# EAGLE library part WH1602L (library WH1602L)
(16 characters x 2 lines, transflective, positive FSTN, white background, black characters) Source: Datasheet <https://datasheet.datasheetarchive.com/originals/distributors/Datasheets-314/304334.pdf>
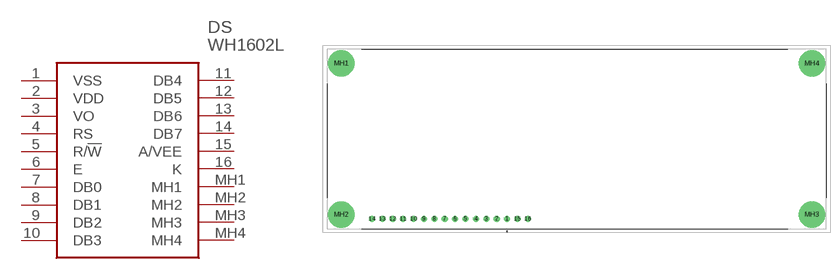
[diagram p0: symbol with the pads of WH1602L; footprint WH1602L]

Designator prefix DS

## WH1602L (Description: (16 characters x 2 lines, transflective, positive FSTN, white background, black characters); Height: 13.6mm; Manufacturer_Name: Winstar; Manufacturer_Part_Number: WH1602L)  [WH1602L]
1  VSS
2  VDD
3  VO
4  RS
5  R/!W
6  E
7  DB0
8  DB1
9  DB2
10  DB3
11  DB4
12  DB5
13  DB6
14  DB7
15  A/VEE
16  K
MH1  MH1
MH2  MH2
MH3  MH3
MH4  MH4

## Footprint WH1602L (pad centres in mm)
WH1602L-1
drill 1 pad 1.5: 1 0,0; 2 -2.54,0; 3 -5.08,0; 4 -7.62,0; 5 -10.16,0; 6 -12.7,0; 7 -15.24,0; 8 -17.78,0; 9 -20.32,0; 10 -22.86,0; 11 -25.4,0; 12 -27.94,0; 13 -30.48,0; 14 -33.02,0; 15 2.54,0; 16 5.08,0
drill 3.5 pad 6.5: MH1 -40.5,38; MH2 -40.5,1; MH3 74.5,1; MH4 74.5,38